# Altium footprint library INDUCTOR-4x4.PcbLib: 1 footprints
Each footprint in its own frame and in the unit in brackets; x right, y up, seen from the top. Pads: shape width x height; smd on the part's side, far side on the other; paste and mask are expansions set on the pad; w line width, h text height; cw(c..) or ccw(c..) is an arc to the next point about the centre after c.
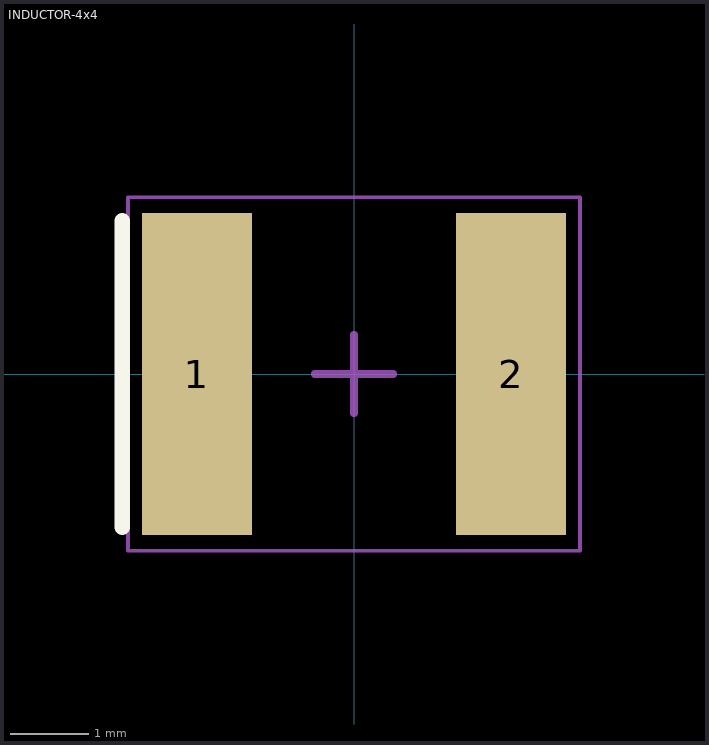
[diagram p0: the footprint, top view; thin cyan lines are the x and y axes]

## INDUCTOR-4x4 [mm] "Precision Wire Wound Inductor, 2-Leads, Body 4,00x4,00mm, IPC Medium Density"
height 1.7
pads (2):
  rect 1.4x4.1 smd: 1(-2,0) 2(2,0)
Top Overlay:
  lines w0.2: -2.95,-1.95 -2.95,1.95
Mechanical 15:
  lines w0.05: -2.875,-2.25 -2.875,2.25 2.875,2.25 2.875,-2.25 -2.875,-2.25
  lines w0.1: -0.5,0 0.5,0 ; 0,-0.5 0,0.5
3D body "INDUCTOR-4x4.step": height 1.8, standoff 0, extent -2.1,-2 2.1,2